# EAGLE library part FMC-LPC160-FPGA (library samtec-fmc)
ASP-134604-01 FMC Connector, lead free, (LPC), 160 I/O, male 10 mm ASP-134606-01 FMC Connector, lead free, (LPC), 160 I/O, male 8.50 mm
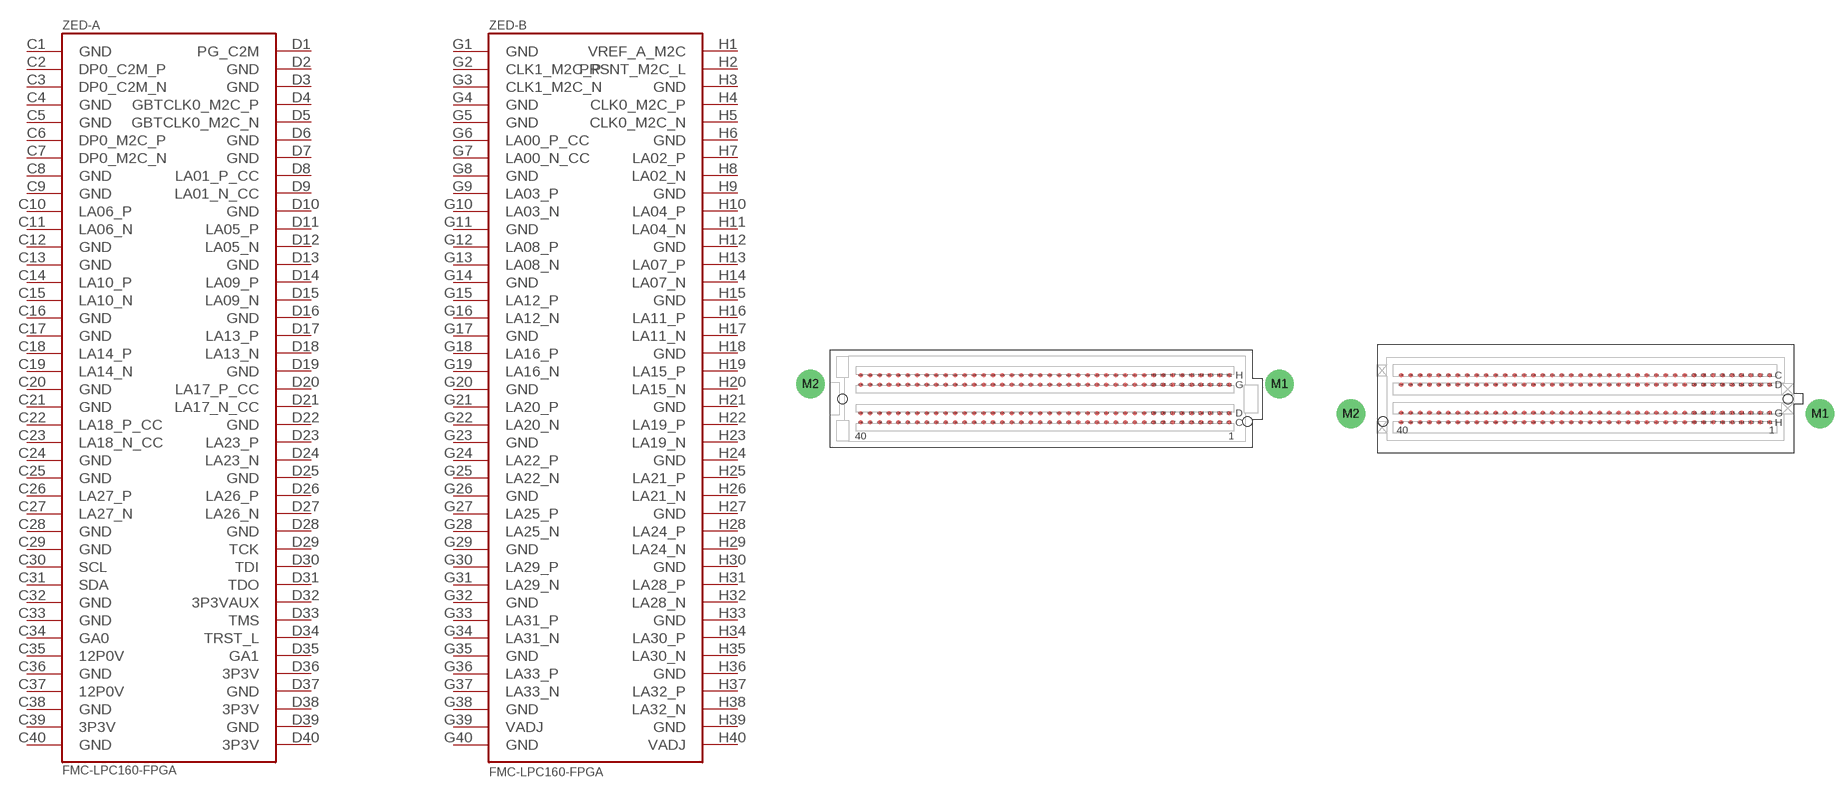
[diagram p3: symbol with the pads of ASP-134603-01; footprints ASP-134603-01, ASP-134604-01]

Designator prefix ZED; gates -A=BANK-80P-CD-FPGA -B=BANK-80P-GH-FPGA

## FMC-LPC160-FPGA-FEMALE  [ASP-134603-01]
C1  -A:GND
C2  -A:DP0_C2M_P
C3  -A:DP0_C2M_N
C4  -A:GND
C5  -A:GND
C6  -A:DP0_M2C_P
C7  -A:DP0_M2C_N
C8  -A:GND
C9  -A:GND
C10  -A:LA06_P
C11  -A:LA06_N
C12  -A:GND
C13  -A:GND
C14  -A:LA10_P
C15  -A:LA10_N
C16  -A:GND
C17  -A:GND
C18  -A:LA14_P
C19  -A:LA14_N
C20  -A:GND
C21  -A:GND
C22  -A:LA18_P_CC
C23  -A:LA18_N_CC
C24  -A:GND
C25  -A:GND
C26  -A:LA27_P
C27  -A:LA27_N
C28  -A:GND
C29  -A:GND
C30  -A:SCL
C31  -A:SDA
C32  -A:GND
C33  -A:GND
C34  -A:GA0
C35  -A:12P0V
C36  -A:GND
C37  -A:12P0V
C38  -A:GND
C39  -A:3P3V
C40  -A:GND
D1  -A:PG_C2M
D2  -A:GND
D3  -A:GND
D4  -A:GBTCLK0_M2C_P
D5  -A:GBTCLK0_M2C_N
D6  -A:GND
D7  -A:GND
D8  -A:LA01_P_CC
D9  -A:LA01_N_CC
D10  -A:GND
D11  -A:LA05_P
D12  -A:LA05_N
D13  -A:GND
D14  -A:LA09_P
D15  -A:LA09_N
D16  -A:GND
D17  -A:LA13_P
D18  -A:LA13_N
D19  -A:GND
D20  -A:LA17_P_CC
D21  -A:LA17_N_CC
D22  -A:GND
D23  -A:LA23_P
D24  -A:LA23_N
D25  -A:GND
D26  -A:LA26_P
D27  -A:LA26_N
D28  -A:GND
D29  -A:TCK
D30  -A:TDI
D31  -A:TDO
D32  -A:3P3VAUX
D33  -A:TMS
D34  -A:TRST_L
D35  -A:GA1
D36  -A:3P3V
D37  -A:GND
D38  -A:3P3V
D39  -A:GND
D40  -A:3P3V
G1  -B:GND
G2  -B:CLK1_M2C_P
G3  -B:CLK1_M2C_N
G4  -B:GND
G5  -B:GND
G6  -B:LA00_P_CC
G7  -B:LA00_N_CC
G8  -B:GND
G9  -B:LA03_P
G10  -B:LA03_N
G11  -B:GND
G12  -B:LA08_P
G13  -B:LA08_N
G14  -B:GND
G15  -B:LA12_P
G16  -B:LA12_N
G17  -B:GND
G18  -B:LA16_P
G19  -B:LA16_N
G20  -B:GND
G21  -B:LA20_P
G22  -B:LA20_N
G23  -B:GND
G24  -B:LA22_P
G25  -B:LA22_N
G26  -B:GND
G27  -B:LA25_P
G28  -B:LA25_N
G29  -B:GND
G30  -B:LA29_P
G31  -B:LA29_N
G32  -B:GND
G33  -B:LA31_P
G34  -B:LA31_N
G35  -B:GND
G36  -B:LA33_P
G37  -B:LA33_N
G38  -B:GND
G39  -B:VADJ
G40  -B:GND
H1  -B:VREF_A_M2C
H2  -B:PRSNT_M2C_L
H3  -B:GND
H4  -B:CLK0_M2C_P
H5  -B:CLK0_M2C_N
H6  -B:GND
H7  -B:LA02_P
H8  -B:LA02_N
H9  -B:GND
H10  -B:LA04_P
H11  -B:LA04_N
H12  -B:GND
H13  -B:LA07_P
H14  -B:LA07_N
H15  -B:GND
H16  -B:LA11_P
H17  -B:LA11_N
H18  -B:GND
H19  -B:LA15_P
H20  -B:LA15_N
H21  -B:GND
H22  -B:LA19_P
H23  -B:LA19_N
H24  -B:GND
H25  -B:LA21_P
H26  -B:LA21_N
H27  -B:GND
H28  -B:LA24_P
H29  -B:LA24_N
H30  -B:GND
H31  -B:LA28_P
H32  -B:LA28_N
H33  -B:GND
H34  -B:LA30_P
H35  -B:LA30_N
H36  -B:GND
H37  -B:LA32_P
H38  -B:LA32_N
H39  -B:GND
H40  -B:VADJ

## FMC-LPC160-FPGA-MALE  [ASP-134604-01]
Pads as for ASP-134603-01

## Footprint ASP-134603-01 (pad centres in mm)
smd 0.635 x 0.635: C1 24.765,-3.175; C2 23.495,-3.175; C3 22.225,-3.175; C4 20.955,-3.175; C5 19.685,-3.175; C6 18.415,-3.175; C7 17.145,-3.175; C8 15.875,-3.175; C9 14.605,-3.175; C10 13.335,-3.175; C11 12.065,-3.175; C12 10.795,-3.175; C13 9.525,-3.175; C14 8.255,-3.175; C15 6.985,-3.175; C16 5.715,-3.175; C17 4.445,-3.175; C18 3.175,-3.175; C19 1.905,-3.175; C20 0.635,-3.175; C21 -0.635,-3.175; C22 -1.905,-3.175; C23 -3.175,-3.175; C24 -4.445,-3.175; C25 -5.715,-3.175; C26 -6.985,-3.175; C27 -8.255,-3.175; C28 -9.525,-3.175; C29 -10.795,-3.175; C30 -12.065,-3.175; C31 -13.335,-3.175; C32 -14.605,-3.175; C33 -15.875,-3.175; C34 -17.145,-3.175; C35 -18.415,-3.175; C36 -19.685,-3.175; C37 -20.955,-3.175; C38 -22.225,-3.175; C39 -23.495,-3.175; C40 -24.765,-3.175; D1 24.765,-1.905; D2 23.495,-1.905; D3 22.225,-1.905; D4 20.955,-1.905; D5 19.685,-1.905; D6 18.415,-1.905; D7 17.145,-1.905; D8 15.875,-1.905; D9 14.605,-1.905; D10 13.335,-1.905; D11 12.065,-1.905; D12 10.795,-1.905; D13 9.525,-1.905; D14 8.255,-1.905; D15 6.985,-1.905; D16 5.715,-1.905; D17 4.445,-1.905; D18 3.175,-1.905; D19 1.905,-1.905; D20 0.635,-1.905; D21 -0.635,-1.905; D22 -1.905,-1.905; D23 -3.175,-1.905; D24 -4.445,-1.905; D25 -5.715,-1.905; D26 -6.985,-1.905; D27 -8.255,-1.905; D28 -9.525,-1.905; D29 -10.795,-1.905; D30 -12.065,-1.905; D31 -13.335,-1.905; D32 -14.605,-1.905; D33 -15.875,-1.905; D34 -17.145,-1.905; D35 -18.415,-1.905; D36 -19.685,-1.905; D37 -20.955,-1.905; D38 -22.225,-1.905; D39 -23.495,-1.905; D40 -24.765,-1.905; G1 24.765,1.905; G2 23.495,1.905; G3 22.225,1.905; G4 20.955,1.905; G5 19.685,1.905; G6 18.415,1.905; G7 17.145,1.905; G8 15.875,1.905; G9 14.605,1.905; G10 13.335,1.905; G11 12.065,1.905; G12 10.795,1.905; G13 9.525,1.905; G14 8.255,1.905; G15 6.985,1.905; G16 5.715,1.905; G17 4.445,1.905; G18 3.175,1.905; G19 1.905,1.905; G20 0.635,1.905; G21 -0.635,1.905; G22 -1.905,1.905; G23 -3.175,1.905; G24 -4.445,1.905; G25 -5.715,1.905; G26 -6.985,1.905; G27 -8.255,1.905; G28 -9.525,1.905; G29 -10.795,1.905; G30 -12.065,1.905; G31 -13.335,1.905; G32 -14.605,1.905; G33 -15.875,1.905; G34 -17.145,1.905; G35 -18.415,1.905; G36 -19.685,1.905; G37 -20.955,1.905; G38 -22.225,1.905; G39 -23.495,1.905; G40 -24.765,1.905; H1 24.765,3.175; H2 23.495,3.175; H3 22.225,3.175; H4 20.955,3.175; H5 19.685,3.175; H6 18.415,3.175; H7 17.145,3.175; H8 15.875,3.175; H9 14.605,3.175; H10 13.335,3.175; H11 12.065,3.175; H12 10.795,3.175; H13 9.525,3.175; H14 8.255,3.175; H15 6.985,3.175; H16 5.715,3.175; H17 4.445,3.175; H18 3.175,3.175; H19 1.905,3.175; H20 0.635,3.175; H21 -0.635,3.175; H22 -1.905,3.175; H23 -3.175,3.175; H24 -4.445,3.175; H25 -5.715,3.175; H26 -6.985,3.175; H27 -8.255,3.175; H28 -9.525,3.175; H29 -10.795,3.175; H30 -12.065,3.175; H31 -13.335,3.175; H32 -14.605,3.175; H33 -15.875,3.175; H34 -17.145,3.175; H35 -18.415,3.175; H36 -19.685,3.175; H37 -20.955,3.175; H38 -22.225,3.175; H39 -23.495,3.175; H40 -24.765,3.175
drill 2.75 pad 3.85: M1 31.5,2; M2 -31.5,2
hole 1.27 at -27.191,0
hole 1.27 at 27.191,-3.048

## Footprint ASP-134604-01 (pad centres in mm)
smd 0.635 x 0.635: C1 24.765,3.175; C2 23.495,3.175; C3 22.225,3.175; C4 20.955,3.175; C5 19.685,3.175; C6 18.415,3.175; C7 17.145,3.175; C8 15.875,3.175; C9 14.605,3.175; C10 13.335,3.175; C11 12.065,3.175; C12 10.795,3.175; C13 9.525,3.175; C14 8.255,3.175; C15 6.985,3.175; C16 5.715,3.175; C17 4.445,3.175; C18 3.175,3.175; C19 1.905,3.175; C20 0.635,3.175; C21 -0.635,3.175; C22 -1.905,3.175; C23 -3.175,3.175; C24 -4.445,3.175; C25 -5.715,3.175; C26 -6.985,3.175; C27 -8.255,3.175; C28 -9.525,3.175; C29 -10.795,3.175; C30 -12.065,3.175; C31 -13.335,3.175; C32 -14.605,3.175; C33 -15.875,3.175; C34 -17.145,3.175; C35 -18.415,3.175; C36 -19.685,3.175; C37 -20.955,3.175; C38 -22.225,3.175; C39 -23.495,3.175; C40 -24.765,3.175; D1 24.765,1.905; D2 23.495,1.905; D3 22.225,1.905; D4 20.955,1.905; D5 19.685,1.905; D6 18.415,1.905; D7 17.145,1.905; D8 15.875,1.905; D9 14.605,1.905; D10 13.335,1.905; D11 12.065,1.905; D12 10.795,1.905; D13 9.525,1.905; D14 8.255,1.905; D15 6.985,1.905; D16 5.715,1.905; D17 4.445,1.905; D18 3.175,1.905; D19 1.905,1.905; D20 0.635,1.905; D21 -0.635,1.905; D22 -1.905,1.905; D23 -3.175,1.905; D24 -4.445,1.905; D25 -5.715,1.905; D26 -6.985,1.905; D27 -8.255,1.905; D28 -9.525,1.905; D29 -10.795,1.905; D30 -12.065,1.905; D31 -13.335,1.905; D32 -14.605,1.905; D33 -15.875,1.905; D34 -17.145,1.905; D35 -18.415,1.905; D36 -19.685,1.905; D37 -20.955,1.905; D38 -22.225,1.905; D39 -23.495,1.905; D40 -24.765,1.905; G1 24.765,-1.905; G2 23.495,-1.905; G3 22.225,-1.905; G4 20.955,-1.905; G5 19.685,-1.905; G6 18.415,-1.905; G7 17.145,-1.905; G8 15.875,-1.905; G9 14.605,-1.905; G10 13.335,-1.905; G11 12.065,-1.905; G12 10.795,-1.905; G13 9.525,-1.905; G14 8.255,-1.905; G15 6.985,-1.905; G16 5.715,-1.905; G17 4.445,-1.905; G18 3.175,-1.905; G19 1.905,-1.905; G20 0.635,-1.905; G21 -0.635,-1.905; G22 -1.905,-1.905; G23 -3.175,-1.905; G24 -4.445,-1.905; G25 -5.715,-1.905; G26 -6.985,-1.905; G27 -8.255,-1.905; G28 -9.525,-1.905; G29 -10.795,-1.905; G30 -12.065,-1.905; G31 -13.335,-1.905; G32 -14.605,-1.905; G33 -15.875,-1.905; G34 -17.145,-1.905; G35 -18.415,-1.905; G36 -19.685,-1.905; G37 -20.955,-1.905; G38 -22.225,-1.905; G39 -23.495,-1.905; G40 -24.765,-1.905; H1 24.765,-3.175; H2 23.495,-3.175; H3 22.225,-3.175; H4 20.955,-3.175; H5 19.685,-3.175; H6 18.415,-3.175; H7 17.145,-3.175; H8 15.875,-3.175; H9 14.605,-3.175; H10 13.335,-3.175; H11 12.065,-3.175; H12 10.795,-3.175; H13 9.525,-3.175; H14 8.255,-3.175; H15 6.985,-3.175; H16 5.715,-3.175; H17 4.445,-3.175; H18 3.175,-3.175; H19 1.905,-3.175; H20 0.635,-3.175; H21 -0.635,-3.175; H22 -1.905,-3.175; H23 -3.175,-3.175; H24 -4.445,-3.175; H25 -5.715,-3.175; H26 -6.985,-3.175; H27 -8.255,-3.175; H28 -9.525,-3.175; H29 -10.795,-3.175; H30 -12.065,-3.175; H31 -13.335,-3.175; H32 -14.605,-3.175; H33 -15.875,-3.175; H34 -17.145,-3.175; H35 -18.415,-3.175; H36 -19.685,-3.175; H37 -20.955,-3.175; H38 -22.225,-3.175; H39 -23.495,-3.175; H40 -24.765,-3.175
drill 2.75 pad 3.85: M1 31.5,-2; M2 -31.5,-2
hole 1.27 at 27.191,0
hole 1.27 at -27.191,-3.048